# Altium footprint library VSSOP-8_0.PcbLib: 1 footprints
Each footprint in its own frame and in the unit in brackets; x right, y up, seen from the top. Pads: shape width x height; smd on the part's side, far side on the other; paste and mask are expansions set on the pad; w line width, h text height; cw(c..) or ccw(c..) is an arc to the next point about the centre after c.
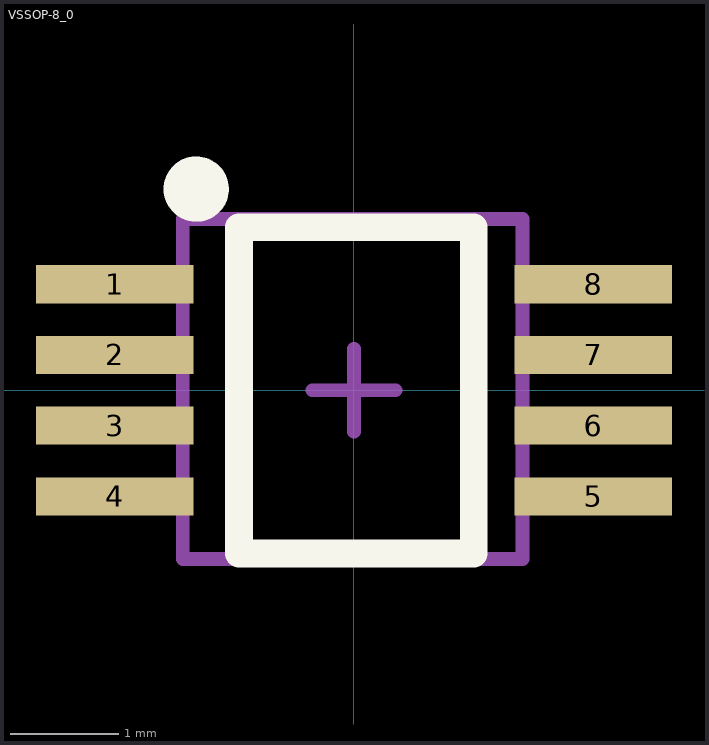
[diagram p0: the footprint, top view; thin cyan lines are the x and y axes]

## VSSOP-8_0 [mm]
pads (8):
  rect 1.45x0.35 smd mask+0.06: 1(-2.2,0.975) 2(-2.2,0.325) 3(-2.2,-0.325) 4(-2.2,-0.975) 5(2.2,-0.975) 6(2.2,-0.325) 7(2.2,0.325) 8(2.2,0.975)
Top Overlay:
  circle w0.3: c-1.45,1.85 r0.15
  lines w0.254: -1.057,-1.5 1.102,-1.5 1.102,1.5 -1.057,1.5 -1.057,-1.5
Mechanical 13:
  lines w0.127: -1.575,-1.55 -1.575,1.575 1.55,1.575 1.55,-1.55 -1.575,-1.55
Mechanical 15:
  lines w0.127: -0.381,0 0.381,0 ; 0,-0.381 0,0.381
3D body: height 0.95, standoff 0.15, extent -1.575,-1.55 1.55,1.575